# Altium schematic symbol library IHLP4040DZER330M11.SchLib: 1 symbol
Pins are listed as number, name and electrical type; pins without a type are passive.

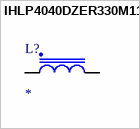
[diagram p0: symbol IHLP4040DZER330M11]

## IHLP4040DZER330M11
designator L?
footprint IHLP4040DZER330M11
pins: 1, 2